# EAGLE library part LED_BOARD_CONNECTOR (library SSS_SOB_REPRO)
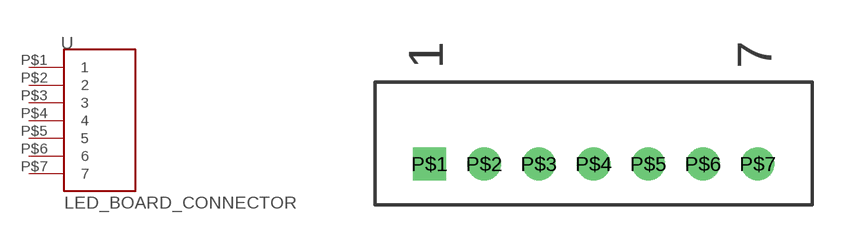
[diagram p4: symbol with the pads of 7PIN_LED; footprint 7PIN_LED]

Designator prefix -

## LED_BOARD_CONNECTOR  [7PIN_LED]
P$1  1  pas
P$2  2  pas
P$3  3  pas
P$4  4  pas
P$5  5  pas
P$6  6  pas
P$7  7  pas

## Footprint 7PIN_LED (pad centres in mm)
drill 0.7 square: P$1 2,1.5
drill 0.7: P$2 4,1.5; P$3 6,1.5; P$4 8,1.5; P$5 10,1.5; P$6 12,1.5; P$7 14,1.5